# EAGLE library part PIC18F24J11-I/ML (library pic18f24j11)
8BIT MCU
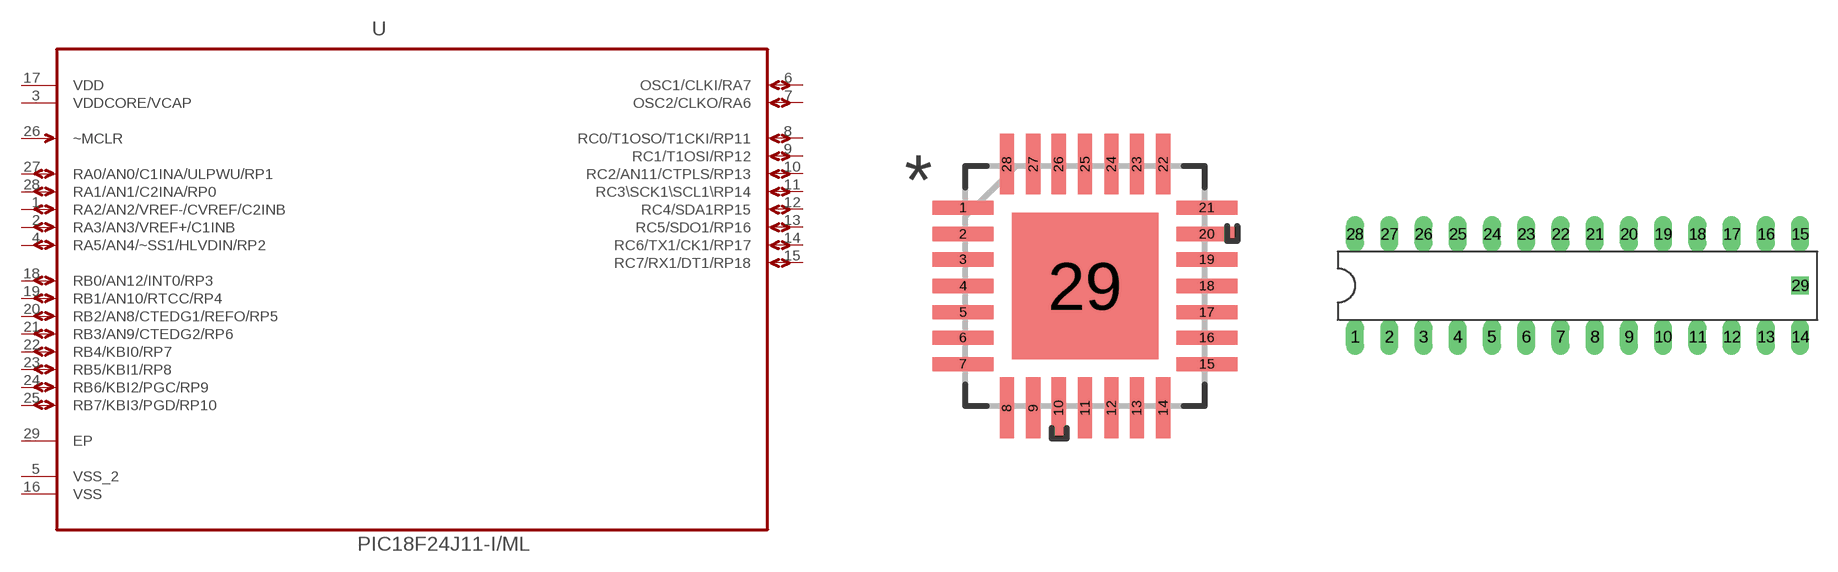
[diagram p0: symbol with the pads of QFN65P600X600X100-29N; footprints QFN65P600X600X100-29N, DIL28-3]

Designator prefix -

## PIC18F24J11-I/ML (DESCRIPTION: 8BIT MCU; MPN: PIC18F24J11-I/Ml; OC_FARNELL: 1707634; OC_NEWARK: 98M1764; PACKAGE: QFN-28; SUPPLIER: Microchip)  [QFN65P600X600X100-29N]
1  RA2/AN2/VREF-/CVREF/C2INB
2  RA3/AN3/VREF+/C1INB
3  VDDCORE/VCAP  pwr
4  RA5/AN4/~SS1/HLVDIN/RP2
5  VSS_2  pas
6  OSC1/CLKI/RA7
7  OSC2/CLKO/RA6
8  RC0/T1OSO/T1CKI/RP11
9  RC1/T1OSI/RP12
10  RC2/AN11/CTPLS/RP13
11  RC3\SCK1\SCL1\RP14
12  RC4/SDA1RP15
13  RC5/SDO1/RP16
14  RC6/TX1/CK1/RP17
15  RC7/RX1/DT1/RP18
16  VSS  pas
17  VDD  pwr
18  RB0/AN12/INT0/RP3
19  RB1/AN10/RTCC/RP4
20  RB2/AN8/CTEDG1/REFO/RP5
21  RB3/AN9/CTEDG2/RP6
22  RB4/KBI0/RP7
23  RB5/KBI1/RP8
24  RB6/KBI2/PGC/RP9
25  RB7/KBI3/PGD/RP10
26  ~MCLR  in
27  RA0/AN0/C1INA/ULPWU/RP1
28  RA1/AN1/C2INA/RP0
29  EP  pas

## PIC18F24J11-I/MLDIL28-_TYPE_P  [DIL28-3]
1  ~MCLR  in
2  RA0/AN0/C1INA/ULPWU/RP1
3  RA1/AN1/C2INA/RP0
4  RA2/AN2/VREF-/CVREF/C2INB
5  RA3/AN3/VREF+/C1INB
6  VDDCORE/VCAP  pwr
7  RA5/AN4/~SS1/HLVDIN/RP2
8  VSS  pas
9  OSC1/CLKI/RA7
10  OSC2/CLKO/RA6
11  RC0/T1OSO/T1CKI/RP11
12  RC1/T1OSI/RP12
13  RC2/AN11/CTPLS/RP13
14  RC3\SCK1\SCL1\RP14
15  RC4/SDA1RP15
16  RC5/SDO1/RP16
17  RC6/TX1/CK1/RP17
18  RC7/RX1/DT1/RP18
19  VSS_2  pas
20  VDD  pwr
21  RB0/AN12/INT0/RP3
22  RB1/AN10/RTCC/RP4
23  RB2/AN8/CTEDG1/REFO/RP5
24  RB3/AN9/CTEDG2/RP6
25  RB4/KBI0/RP7
26  RB5/KBI1/RP8
27  RB6/KBI2/PGC/RP9
28  RB7/KBI3/PGD/RP10
29  EP  pas

## Footprint QFN65P600X600X100-29N (pad centres in mm)
smd 1.524 x 0.356: 1 -3.048,1.956; 2 -3.048,1.295; 3 -3.048,0.66; 4 -3.048,0; 5 -3.048,-0.66; 6 -3.048,-1.295; 7 -3.048,-1.956; 15 3.048,-1.956; 16 3.048,-1.295; 17 3.048,-0.66; 18 3.048,0; 19 3.048,0.66; 20 3.048,1.295; 21 3.048,1.956
smd 0.356 x 1.524: 8 -1.956,-3.048; 9 -1.295,-3.048; 10 -0.66,-3.048; 11 0,-3.048; 12 0.66,-3.048; 13 1.295,-3.048; 14 1.956,-3.048; 22 1.956,3.048; 23 1.295,3.048; 24 0.66,3.048; 25 0,3.048; 26 -0.66,3.048; 27 -1.295,3.048; 28 -1.956,3.048
smd 3.658 x 3.658: 29 0,0

## Footprint DIL28-3 (pad centres in mm)
Dual In Line package type P
drill 0.813 long: 1 -16.51,-3.81; 2 -13.97,-3.81; 3 -11.43,-3.81; 4 -8.89,-3.81; 5 -6.35,-3.81; 6 -3.81,-3.81; 7 -1.27,-3.81; 8 1.27,-3.81; 9 3.81,-3.81; 10 6.35,-3.81; 11 8.89,-3.81; 12 11.43,-3.81; 13 13.97,-3.81; 14 16.51,-3.81; 15 16.51,3.81; 16 13.97,3.81; 17 11.43,3.81; 18 8.89,3.81; 19 6.35,3.81; 20 3.81,3.81; 21 1.27,3.81; 22 -1.27,3.81; 23 -3.81,3.81; 24 -6.35,3.81; 25 -8.89,3.81; 26 -11.43,3.81; 27 -13.97,3.81; 28 -16.51,3.81
drill 0.8 square: 29 16.51,0